# EAGLE library part AT30TS75A-? (library C3-Microchip)
9- to 12-bit Selectable, ±0.5°C Accurate, Digital Temperature Sensor - I2C Bus Datasheet <http://www.atmel.com/images/atmel-8839-dts-at30ts75a-datasheet.pdf> Highlghts: Single 1.7V to 5.5V Supply Measures Temperature from -55°C to +125°C Highly Accurate Temperature Measurements Requiring No External Components ±0.5°C Accuracy (Typical) Over the 0°C to +85°C Range ±1.0°C Accuracy (Typical) Over the -25°C to +105°C Range ±2.0°C Accuracy (Typical) Over the -40°C to +125°C Range User-configurable Resolution 9 to 12 bits (0.5°C to 0.0625°C) User-configurable High and Low Temperature Limits ALERT Output Pin for Indicating Temperature Alarms 2-wire I2C and SMBus™ Compatible Serial Interface Supports SMBus Timeout Supports SMBus Alert and Alert Response Address (ARA) Selectable Addressing Allows up to Eight Devices on the Same Bus I2C High-Speed (HS) Mode Compatible 3.4MHz Maximum Clock Frequency Built-in Noise Suppression Filtering for Clock and Data Input Signals Low Power Dissipation 85μA Active Current (Typical) During Temperature Measurements Shutdown Mode to Minimize Power Consumption 1μA Shutdown Current (Typical) One-Shot Mode for Single Temperature Measurement While in Shutdown Mode Pin and Software Compatible to Industry-standard LM75-type Devices
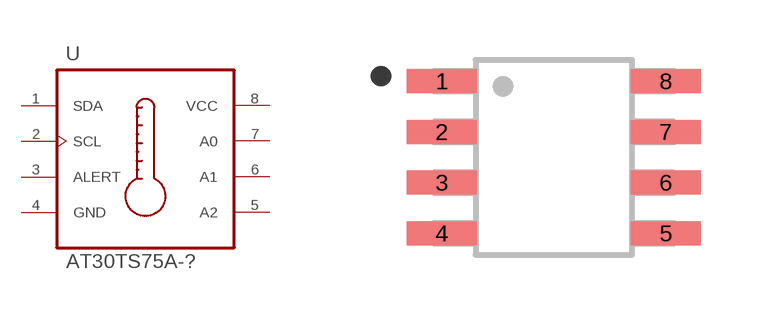
[diagram p2: symbol with the pads of SOIC8-N_MC; footprint SOIC8-N_MC]

Designator prefix U

## AT30TS75A-SS  [SOIC8-N_MC]
1  SDA
2  SCL  in
3  ALERT  out
4  GND  pas
5  A2  in
6  A1  in
7  A0  in
8  VCC  pwr

## Footprint SOIC8-N_MC (pad centres in mm)
SOIC-8 Narrow
smd 1.75 x 0.6: 1 -2.8,1.905; 2 -2.8,0.635; 3 -2.8,-0.635; 4 -2.8,-1.905; 5 2.8,-1.905; 6 2.8,-0.635; 7 2.8,0.635; 8 2.8,1.905